# Altium integrated library AC0402KRX7R9BB103.IntLib: 1 symbol
Pins are listed as number, name and electrical type; pins without a type are passive.

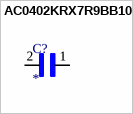
[diagram p0: symbol AC0402KRX7R9BB103]

## AC0402KRX7R9BB103
designator C?
CAP CER 10000PF 50V X7R 0402; MP: AC0402KRX7R9BB103; Package: None; Price: None; Value: *; Availability: Unavailable
footprint CAPC1005X55N
pins: 1, 2